# EAGLE library part TPIC6A596DW (library BlueHome)
8 bit shift register
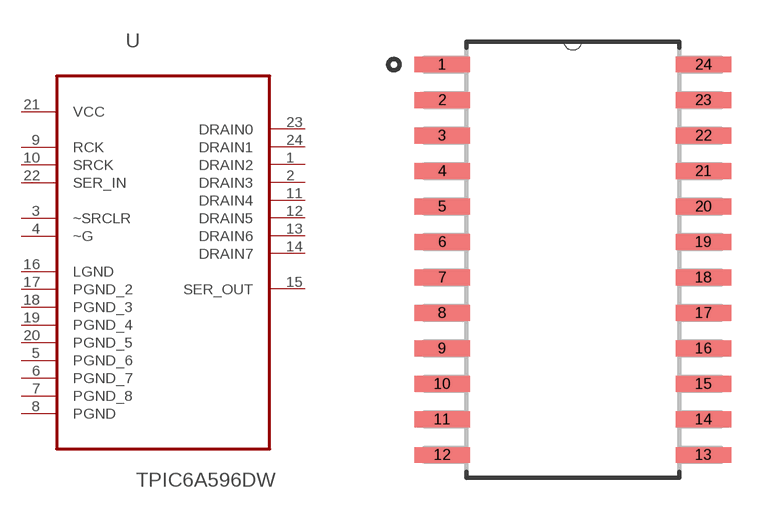
[diagram p8: symbol with the pads of SOIC127P1030X265-24N; footprint SOIC127P1030X265-24N]

Designator prefix U

## TPIC6A596DW (AVAILABILITY: Unavailable; DESCRIPTION: Shift Register Single 8-Bit Serial to Serial/Parallel 24-Pin SOIC Tube; MF: Texas Instruments; MP: TPIC6A596DW; PACKAGE: SOIC-24 Texas Instruments; PRICE: None)  [SOIC127P1030X265-24N]
1  DRAIN2  out
2  DRAIN3  out
3  ~SRCLR  in
4  ~G  in
5  PGND_6  pas
6  PGND_7  pas
7  PGND_8  pas
8  PGND  pas
9  RCK  in
10  SRCK  in
11  DRAIN4  out
12  DRAIN5  out
13  DRAIN6  out
14  DRAIN7  out
15  SER_OUT  out
16  LGND  pas
17  PGND_2  pas
18  PGND_3  pas
19  PGND_4  pas
20  PGND_5  pas
21  VCC  pwr
22  SER_IN  in
23  DRAIN0  out
24  DRAIN1  out

## Footprint SOIC127P1030X265-24N (pad centres in mm)
smd 1.981 x 0.559: 1 -4.674,6.985; 2 -4.674,5.715; 3 -4.674,4.445; 4 -4.674,3.175; 5 -4.674,1.905; 6 -4.674,0.635; 7 -4.674,-0.635; 8 -4.674,-1.905; 9 -4.674,-3.175; 10 -4.674,-4.445; 11 -4.674,-5.715; 12 -4.674,-6.985; 13 4.674,-6.985; 14 4.674,-5.715; 15 4.674,-4.445; 16 4.674,-3.175; 17 4.674,-1.905; 18 4.674,-0.635; 19 4.674,0.635; 20 4.674,1.905; 21 4.674,3.175; 22 4.674,4.445; 23 4.674,5.715; 24 4.674,6.985